# Altium footprint library 402.16-33.PcbLib: 1 footprints
Each footprint in its own frame and in the unit in brackets; x right, y up, seen from the top. Pads: shape width x height; smd on the part's side, far side on the other; paste and mask are expansions set on the pad; w line width, h text height; cw(c..) or ccw(c..) is an arc to the next point about the centre after c.
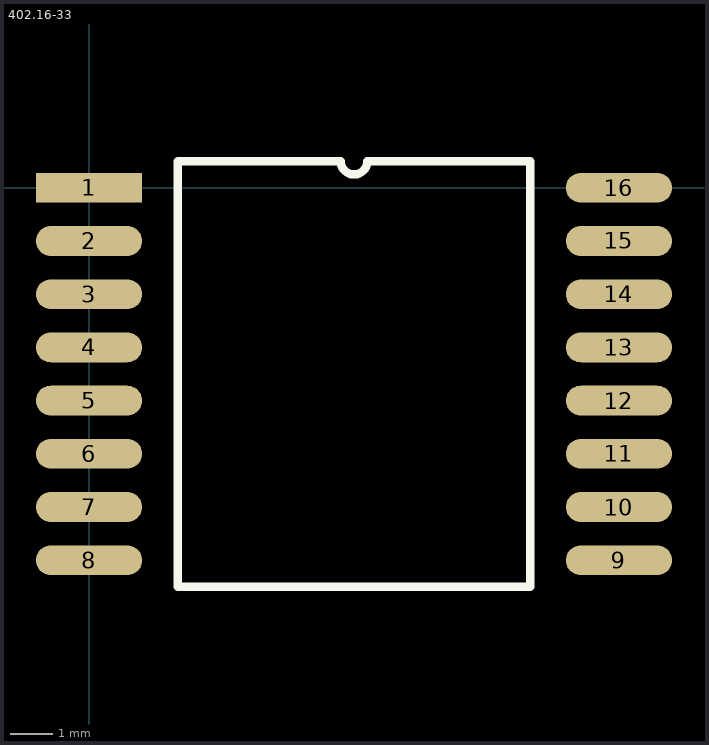
[diagram p0: the footprint, top view; thin cyan lines are the x and y axes]

## 402.16-33 [mm]
pads (16):
  rect 2.5x0.7 smd: 1(0,0)
  oval 2.5x0.7 smd: 2(0,-1.25) 3(0,-2.5) 4(0,-3.75) 5(0,-5) 6(0,-6.25) 7(0,-7.5) 8(0,-8.75) 9(12.45,-8.75) 10(12.45,-7.5) 11(12.45,-6.25) 12(12.45,-5) 13(12.45,-3.75) 14(12.45,-2.5) 15(12.45,-1.25) 16(12.45,0)
Top Overlay:
  lines w0.2: 2.085,-9.375 10.365,-9.375 10.365,0.625 6.537,0.625 cw(c6.225,0.625) 5.913,0.625 2.085,0.625 2.085,-9.375
3D body: height 2.44, standoff 0, extent 1.143,-9.525 11.43,0.762